# Altium footprint library ZZB_Lib.PcbLib: 83 footprints (part 4 of 6)
Each footprint in its own frame and in the unit in brackets; x right, y up, seen from the top. Pads: shape width x height; smd on the part's side, far side on the other; paste and mask are expansions set on the pad; w line width, h text height; cw(c..) or ccw(c..) is an arc to the next point about the centre after c.
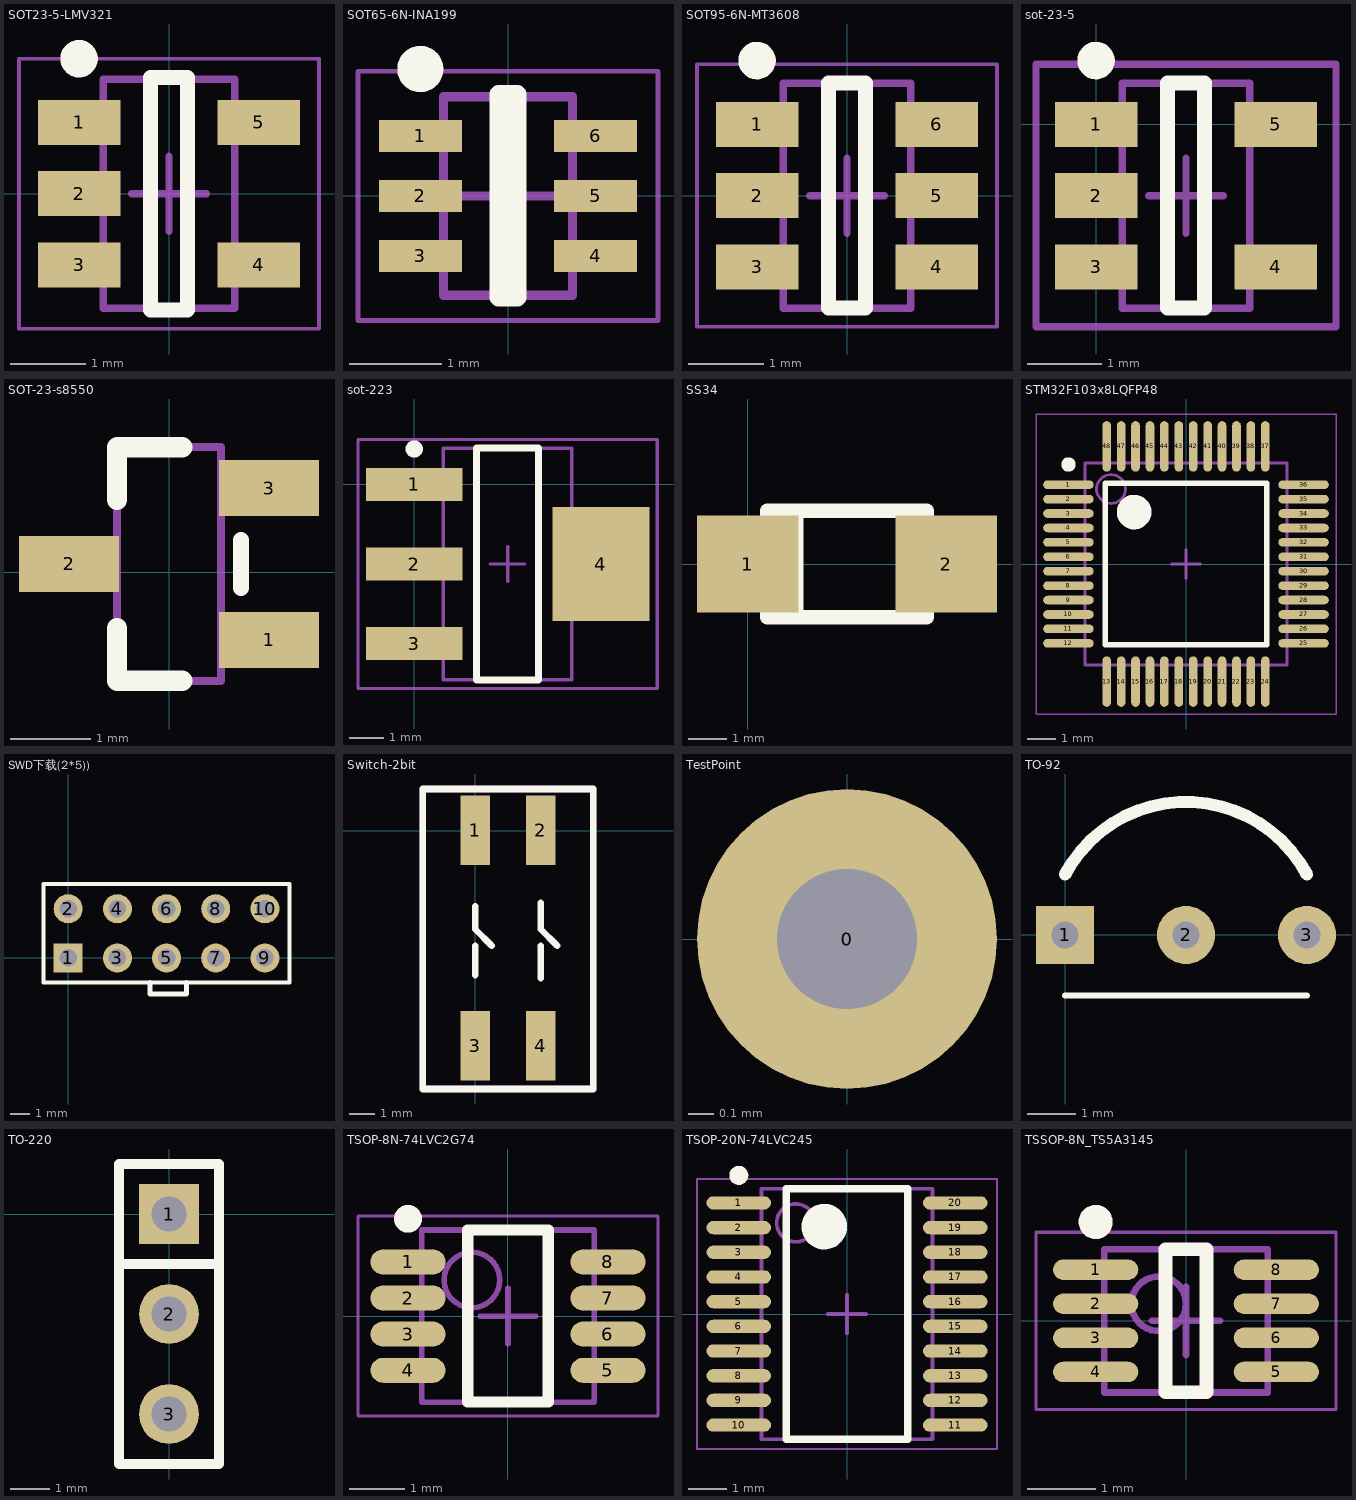
[diagram p3: the footprints below, top view; thin cyan lines are the x and y axes]

## SOT23-5-LMV321 [mm] "SOT23, 5-Leads, Body 2.90x2.80mm, Pitch 0.95mm, IPC Medium Density"
height 1.45
pads (5):
  rect 1.1x0.6 smd: 1(-1.2,0.95) 2(-1.2,0) 3(-1.2,-0.95) 4(1.2,-0.95) 5(1.2,0.95)
Top Overlay:
  circle w0.25: c-1.2,1.8 r0.125
  lines w0.2: -0.25,-1.55 -0.25,1.55 0.25,1.55 0.25,-1.55 -0.25,-1.55
Mechanical 13:
  lines w0.1: -0.875,-1.525 0.875,-1.525 0.875,1.525 -0.875,1.525 -0.875,-1.525
Mechanical 15:
  lines w0.05: -2,-1.8 2,-1.8 2,1.8 -2,1.8 -2,-1.8
  lines w0.1: -0.5,0 0.5,0 ; 0,-0.5 0,0.5
3D body: height 1.45, standoff 0.01, extent -0.875,-1.525 0.875,1.525

## SOT65-6N-INA199 [mm] "SOT23, 6-Leads, Body 2.00x2.10mm, Pitch 0.65mm, IPC Medium Density"
height 1.1
pads (6):
  rect 0.9x0.35 smd: 1(-0.95,0.65) 2(-0.95,0) 3(-0.95,-0.65) 4(0.95,-0.65) 5(0.95,0) 6(0.95,0.65)
Top Overlay:
  circle w0.25: c-0.95,1.375 r0.125
  lines w0.2: -0.1,-1.1 -0.1,1.1 0.1,1.1 0.1,-1.1 -0.1,-1.1
Mechanical 13:
  lines w0.1: -0.7,-1.075 0.7,-1.075 0.7,1.075 -0.7,1.075 -0.7,-1.075
Mechanical 15:
  lines w0.05: -1.625,-1.35 1.625,-1.35 1.625,1.35 -1.625,1.35 -1.625,-1.35
  lines w0.1: -0.5,0 0.5,0 ; 0,-0.5 0,0.5
3D body: height 1.1, standoff 0.01, extent -0.7,-1.075 0.7,1.075

## SOT95-6N-MT3608 [mm] "SOT23, 6-Leads, Body 2.90x2.80mm, Pitch 0.95mm, IPC Medium Density"
height 1.45
pads (6):
  rect 1.1x0.6 smd: 1(-1.2,0.95) 2(-1.2,0) 3(-1.2,-0.95) 4(1.2,-0.95) 5(1.2,0) 6(1.2,0.95)
Top Overlay:
  circle w0.25: c-1.2,1.8 r0.125
  lines w0.2: -0.25,-1.5 -0.25,1.5 0.25,1.5 0.25,-1.5 -0.25,-1.5
Mechanical 13:
  lines w0.1: -0.85,-1.5 0.85,-1.5 0.85,1.5 -0.85,1.5 -0.85,-1.5
Mechanical 15:
  lines w0.05: -2,-1.75 2,-1.75 2,1.75 -2,1.75 -2,-1.75
  lines w0.1: -0.5,0 0.5,0 ; 0,-0.5 0,0.5
3D body: height 1.45, standoff 0.01, extent -0.85,-1.5 0.85,1.5

## sot-23-5 [mm] "SOT23, 5-Leads, Body 3.0x3.0mm (max), Pitch 0.95mm, IPC Medium Density"
height 1.3
pads (5):
  rect 1.1x0.6 smd: 1(0,0) 2(0,-0.95) 3(0,-1.9) 4(2.4,-1.9) 5(2.4,0)
Top Overlay:
  circle w0.25: c0,0.85 r0.125
  lines w0.2: 0.95,-2.45 1.45,-2.45 1.45,0.55 0.95,0.55 0.95,-2.45
Mechanical 13:
  lines w0.1: 0.35,-2.45 0.35,0.55 2.05,0.55 2.05,-2.45 0.35,-2.45
Mechanical 15:
  lines w0.1: 0.7,-0.95 1.7,-0.95 ; 1.2,-1.45 1.2,-0.45 ; -0.8,-2.7 -0.8,0.8 3.2,0.8 3.2,-2.7 -0.8,-2.7
3D body: height 1.3, standoff 0.05, extent 0.35,-2.45 2.05,0.55

## SOT-23-s8550 [mm]
pads (3):
  rect 1.25x0.7 smd: 1(1.25,-0.85) 2(-1.25,0.1) 3(1.25,1.05)
Top Overlay:
  lines w0.2: 0.9,-0.2 0.9,0.4
  lines w0.254: -0.65,-0.7 -0.65,-1.36 0.165,-1.36 ; 0.165,1.56 -0.65,1.56 ; -0.65,0.9 -0.65,1.56 ; -0.65,0.9 -0.65,1.56 ; -0.65,0.9 -0.65,1.56
Mechanical 13:
  lines w0.1: -0.65,-1.36 -0.65,1.56 ; -0.65,-1.36 0.65,-1.36 ; -0.65,-1.36 0.65,-1.36 ; -0.65,-1.36 -0.65,1.56 ; -0.65,-1.36 0.65,-1.36 ; -0.65,-1.36 -0.65,1.56 ; -0.65,1.56 0.65,1.56 ; -0.65,1.56 0.65,1.56 ; -0.65,1.56 0.65,1.56 ; 0.65,-1.36 0.65,1.56 ; 0.65,-1.36 0.65,1.56 ; 0.65,-1.36 0.65,1.56
3D body: height 1.3, standoff 0, extent -1.5,-1.4 1.5,1.6

## sot-223 [mm] "SOT223, 4-Leads, Body 6.7x7.3mm (max), Pitch 2.30mm, IPC Medium Density"
height 1.7
pads (4):
  rect 2.8x0.95 smd: 1(0,0) 2(0,-2.3) 3(0,-4.6)
  rect 2.8x3.3 smd: 4(5.4,-2.3)
Top Overlay:
  circle w0.25: c0,1.025 r0.125
  lines w0.2: 1.8,-5.65 3.6,-5.65 3.6,1.05 1.8,1.05 1.8,-5.65
Mechanical 13:
  lines w0.1: 0.845,-5.65 4.555,-5.65 4.555,1.05 0.845,1.05 0.845,-5.65
Mechanical 15:
  lines w0.1: 2.2,-2.3 3.2,-2.3 ; 2.7,-2.8 2.7,-1.8 ; -1.625,-5.9 7.025,-5.9 7.025,1.3 -1.625,1.3 -1.625,-5.9
3D body: height 1.7, standoff 0.08, extent 0.845,-5.65 4.555,1.05

## SS34 [mil]
pads (2):
  rect 105x100 smd: 1(0,0) 2(205,0)
Top Overlay:
  lines w15: 50,-55 50,55 ; 20,-55 185,-55 185,55 20,55 20,-55

## STM32F103x8LQFP48 [mm] "TSQFP, 48-Leads, Body 7.00x7.00mm, Pitch 0.50mm, IPC Medium Density"
height 1.6
pads (48):
  oval 1.75x0.3 smd: 1(-4.075,2.75) 2(-4.075,2.25) 3(-4.075,1.75) 4(-4.075,1.25) 5(-4.075,0.75) 6(-4.075,0.25) 7(-4.075,-0.25) 8(-4.075,-0.75) 9(-4.075,-1.25) 10(-4.075,-1.75) 11(-4.075,-2.25) 12(-4.075,-2.75) 25(4.075,-2.75) 26(4.075,-2.25) 27(4.075,-1.75) 28(4.075,-1.25) 29(4.075,-0.75) 30(4.075,-0.25) 31(4.075,0.25) 32(4.075,0.75) 33(4.075,1.25) 34(4.075,1.75) 35(4.075,2.25) 36(4.075,2.75)
  oval 0.3x1.75 smd: 13(-2.75,-4.075) 14(-2.25,-4.075) 15(-1.75,-4.075) 16(-1.25,-4.075) 17(-0.75,-4.075) 18(-0.25,-4.075) 19(0.25,-4.075) 20(0.75,-4.075) 21(1.25,-4.075) 22(1.75,-4.075) 23(2.25,-4.075) 24(2.75,-4.075) 37(2.75,4.075) 38(2.25,4.075) 39(1.75,4.075) 40(1.25,4.075) 41(0.75,4.075) 42(0.25,4.075) 43(-0.25,4.075) 44(-0.75,4.075) 45(-1.25,4.075) 46(-1.75,4.075) 47(-2.25,4.075) 48(-2.75,4.075)
Top Overlay:
  circle w0.25: c-4.075,3.45 r0.125
  circle w0.6: c-1.8,1.8 r0.3
  lines w0.2: -2.8,-2.8 -2.8,2.8 2.8,2.8 2.8,-2.8 -2.8,-2.8
Mechanical 13:
  circle w0.1: c-2.6,2.6 r0.5
  lines w0.1: -3.5,-3.5 -3.5,3.5 3.5,3.5 3.5,-3.5 -3.5,-3.5
Mechanical 15:
  lines w0.05: -5.2,-5.2 -5.2,5.2 5.2,5.2 5.2,-5.2 -5.2,-5.2
  lines w0.1: -0.5,0 0.5,0 ; 0,-0.5 0,0.5
3D body: height 1.6, standoff 0.15, extent -3.5,-3.5 3.5,3.5

## SWD下载(2*5)) [mm]
pads (10):
  rect 1.5x1.5 hole 0.9: 1(0,0)
  round 1.5 hole 0.9: 2(0,2.54) 3(2.54,0) 4(2.54,2.54) 5(5.08,0) 6(5.08,2.54) 7(7.62,0) 8(7.62,2.54) 9(10.16,0) 10(10.16,2.54)
Top Overlay:
  lines w0.2: -1.27,-1.27 -1.27,3.81 11.43,3.81 11.43,-1.27 -1.27,-1.27
  lines w0.254: 4.216,-1.27 4.216,-1.854 6.121,-1.854 6.121,-1.27

## Switch-2bit [mm]
pads (4):
  rect 1.15x2.7 smd: 1(0,0.025) 2(2.54,0.025) 3(0,-8.331) 4(2.54,-8.331)
Top Overlay:
  lines w0.254: 0,-5.588 0,-4.445 ; 0,-2.921 0,-3.81 0.635,-4.445 ; 2.54,-5.715 2.54,-4.445 ; 2.54,-2.794 2.54,-3.81 3.175,-4.445 ; -2.032,-10.008 -2.032,1.626 4.572,1.626 4.572,-10.008 -2.032,-10.008
Mechanical 15:
  lines w0.254: -2.032,-10.008 4.572,-10.008 4.572,1.626 -2.032,1.626 -2.032,-10.008

## TestPoint [mm]
pads (1):
  round 1.2 hole 0.56: 0(0,0)

## TO-92 [mm]
pads (3):
  rect 1.2x1.2 hole 0.56: 1(0,0)
  round 1.2 hole 0.56: 2(2.5,0) 3(5,0)
Top Overlay:
  lines w0.127: 0,-1.25 5,-1.25
  lines w0.254: 0,1.25 cw(c2.5,-0.083) 5,1.25

## TO-220 [mil]
pads (3):
  rect 60x60 hole 35.43: 1(0,0)
  round 60 hole 35.43: 2(0,-100) 3(0,-200)
Top Overlay:
  lines w10: -50,-50 50,-50 ; -50,-250 -50,50 50,50 50,-250 -50,-250

## TSOP-8N-74LVC2G74 [mm] "TSOP, 8-Leads, Body 3.00x3.00mm, Pitch 0.65mm, IPC Medium Density"
height 1.1
pads (8):
  oval 1.35x0.45 smd: 1(-1.8,0.975) 2(-1.8,0.325) 3(-1.8,-0.325) 4(-1.8,-0.975) 5(1.8,-0.975) 6(1.8,-0.325) 7(1.8,0.325) 8(1.8,0.975)
Top Overlay:
  circle w0.25: c-1.8,1.75 r0.125
  lines w0.2: -0.725,-1.55 -0.725,1.55 0.725,1.55 0.725,-1.55 -0.725,-1.55
Mechanical 13:
  circle w0.1: c-0.65,0.65 r0.5
  lines w0.1: -1.55,-1.55 -1.55,1.55 1.55,1.55 1.55,-1.55 -1.55,-1.55
Mechanical 15:
  lines w0.05: -2.7,-1.8 -2.7,1.8 2.7,1.8 2.7,-1.8 -2.7,-1.8
  lines w0.1: -0.5,0 0.5,0 ; 0,-0.5 0,0.5
3D body: height 1.1, standoff 0.15, extent -1.55,-1.55 1.55,1.55

## TSOP-20N-74LVC245 [mm] "TSOP, 20-Leads, Body 6.50x4.40mm, Pitch 0.65mm, IPC Medium Density"
height 1.2
pads (20):
  oval 1.7x0.35 smd: 1(-2.85,2.925) 2(-2.85,2.275) 3(-2.85,1.625) 4(-2.85,0.975) 5(-2.85,0.325) 6(-2.85,-0.325) 7(-2.85,-0.975) 8(-2.85,-1.625) 9(-2.85,-2.275) 10(-2.85,-2.925) 11(2.85,-2.925) 12(2.85,-2.275) 13(2.85,-1.625) 14(2.85,-0.975) 15(2.85,-0.325) 16(2.85,0.325) 17(2.85,0.975) 18(2.85,1.625) 19(2.85,2.275) 20(2.85,2.925)
Top Overlay:
  circle w0.6: c-0.6,2.3 r0.3
  circle w0.25: c-2.85,3.65 r0.125
  lines w0.2: -1.6,-3.3 1.6,-3.3 1.6,3.3 -1.6,3.3 -1.6,-3.3
Mechanical 13:
  circle w0.1: c-1.35,2.4 r0.5
  lines w0.1: -2.25,-3.3 2.25,-3.3 2.25,3.3 -2.25,3.3 -2.25,-3.3
Mechanical 15:
  lines w0.05: -3.95,-3.55 3.95,-3.55 3.95,3.55 -3.95,3.55 -3.95,-3.55
  lines w0.1: -0.5,0 0.5,0 ; 0,-0.5 0,0.5
3D body: height 1.2, standoff 0.1, extent -2.25,-3.3 2.25,3.3

## TSSOP-8N_TS5A3145 [mm] "TSSOP, 8-Leads, Body 2.00x2.30mm, Pitch 0.50mm, IPC Medium Density"
height 0.9
pads (8):
  oval 1.25x0.3 smd: 1(-1.325,0.75) 2(-1.325,0.25) 3(-1.325,-0.25) 4(-1.325,-0.75) 5(1.325,-0.75) 6(1.325,-0.25) 7(1.325,0.25) 8(1.325,0.75)
Top Overlay:
  circle w0.25: c-1.325,1.45 r0.125
  lines w0.2: -0.3,-1.05 -0.3,1.05 0.3,1.05 0.3,-1.05 -0.3,-1.05
Mechanical 13:
  circle w0.1: c-0.4,0.25 r0.4
  lines w0.1: -1.2,-1.05 -1.2,1.05 1.2,1.05 1.2,-1.05 -1.2,-1.05
Mechanical 15:
  lines w0.05: -2.2,-1.3 -2.2,1.3 2.2,1.3 2.2,-1.3 -2.2,-1.3
  lines w0.1: -0.5,0 0.5,0 ; 0,-0.5 0,0.5
3D body: height 0.9, standoff 0.12, extent -1.2,-1.05 1.2,1.05